# Altium schematic symbol library NRF52811_Module.Schlib: 1 symbol
Pins are listed as number, name and electrical type; pins without a type are passive.

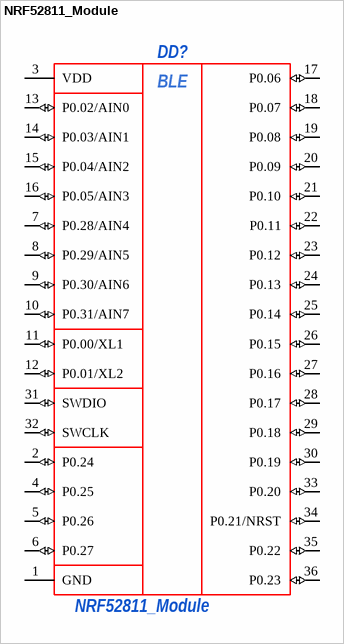
[diagram p0: symbol NRF52811_Module]

## NRF52811_Module
designator DD?
BLE модуль; manufacturer: *; ManufacturerPartNumber: NRF52811_Module; Power/Voltage: *; Rem: *; TKE: *; Tolerance: *; Type: *; Value: *; Корпус: *; Примечание: *
pins: 1 GND (oe), 2 P0.24 (io), 3 VDD (power), 4 P0.25 (io), 5 P0.26 (io), 6 P0.27 (io), 7 P0.28/AIN4 (io), 8 P0.29/AIN5 (io), 9 P0.30/AIN6 (io), 10 P0.31/AIN7 (io), 11 P0.00/XL1 (io), 12 P0.01/XL2 (io), 13 P0.02/AIN0 (io), 14 P0.03/AIN1 (io), 15 P0.04/AIN2 (io), 16 P0.05/AIN3 (io), 17 P0.06 (io), 18 P0.07 (io), 19 P0.08 (io), 20 P0.09 (io), 21 P0.10 (io), 22 P0.11 (io), 23 P0.12 (io), 24 P0.13 (io), 25 P0.14 (io), 26 P0.15 (io), 27 P0.16 (io), 28 P0.17 (io), 29 P0.18 (io), 30 P0.19 (io), 31 SWDIO (io), 32 SWCLK (io), 33 P0.20 (io), 34 P0.21/NRST (io), 35 P0.22 (io), 36 P0.23 (io)
text: BLE